# EAGLE library part DPDT (library anookum_control)
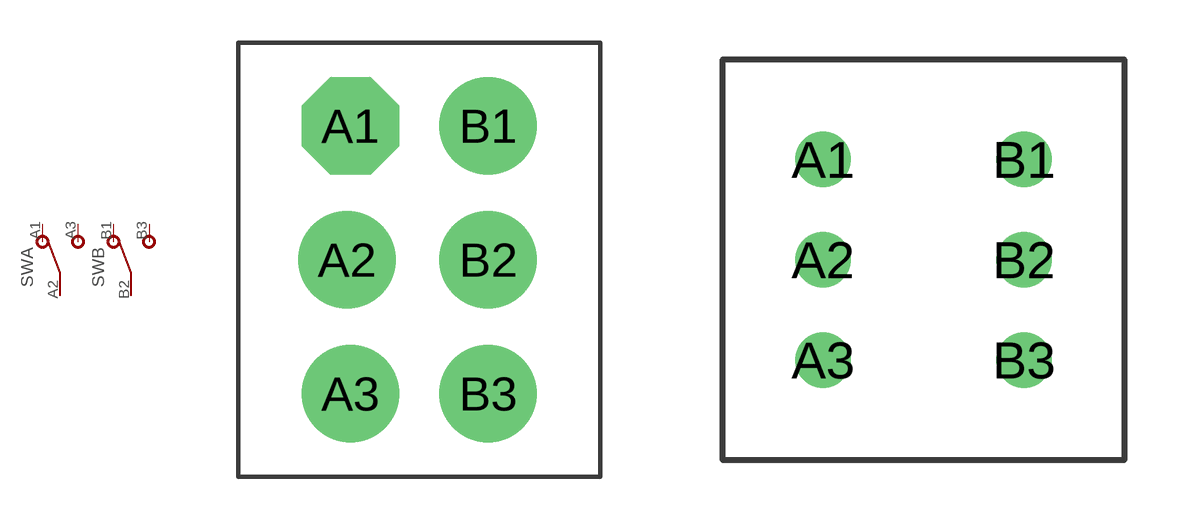
[diagram p0: symbol with the pads of DPDT; footprints DPDT, DPDT_MINI]

Designator prefix SW; gates A=SPDT B=SPDT

## DPDT1AD6T2B4M2RE  [DPDT]
A1  A:1  pas
A2  A:2  pas
A3  A:3  pas
B1  B:1  pas
B2  B:2  pas
B3  B:3  pas

## DPDT2MD6T2B2M2RE  [DPDT_MINI]
Pads as for DPDT

## Footprint DPDT (pad centres in mm)
drill 2.4 octagon: A1 -2.415,4.7
drill 2.4: A2 -2.54,0; A3 -2.415,-4.7; B1 2.415,4.7; B2 2.415,0; B3 2.415,-4.7

## Footprint DPDT_MINI (pad centres in mm)
drill 0.9: A1 -2.54,2.54; A2 -2.54,0; A3 -2.54,-2.54; B1 2.54,2.54; B2 2.54,0; B3 2.54,-2.54